# Altium schematic symbol library UserIUD.SchLib: 7 symbols
Pins are listed as number, name and electrical type; pins without a type are passive.

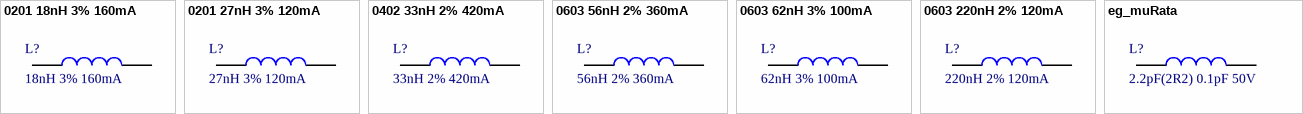
[diagram p0: symbols 0201 18nH 3% 160mA to eg_muRata]

## 0201 18nH 3% 160mA
designator L?, comment 18nH 3% 160mA
村田 0603贴片电感; ManufacturerPartNumber: LQP03TG18NH02D; Manufacturer: muRata(村田); ComponentLink1Description: NULL; Supplier: LC; SuppliersPartNumber: C86098; Package: 0201; SuppliersLink1URL: http://www.szlcsc.com/product/details_87274.html
footprint 0201_L
pins: 1, 2

## 0201 27nH 3% 120mA
designator L?, comment 27nH 3% 120mA
村田 0603贴片电感; ManufacturerPartNumber: LQP03TG27NH02D; Manufacturer: muRata(村田); ComponentLink1Description: NULL; Supplier: LC; SuppliersPartNumber: C86105; Package: 0201; SuppliersLink1URL: http://www.szlcsc.com/product/details_87281.html
footprint 0201_L
pins: 1, 2

## 0402 33nH 2% 420mA
designator L?, comment 33nH 2% 420mA
村田 0603贴片电感; ManufacturerPartNumber: LQW18AN33NG00D; Manufacturer: muRata(村田); ComponentLink1Description: NULL; Supplier: LC; SuppliersPartNumber: C98073; Package: 0603; SuppliersLink1URL: http://www.szlcsc.com/product/details_99282.html
footprint 0603_L
pins: 1, 2

## 0603 56nH 2% 360mA
designator L?, comment 56nH 2% 360mA
村田 0603贴片电感; ManufacturerPartNumber: LQW18AN56NG00D; Manufacturer: muRata(村田); ComponentLink1Description: NULL; Supplier: LC; SuppliersPartNumber: C98079; Package: 0603; SuppliersLink1URL: http://www.szlcsc.com/product/details_99288.html
footprint 0603_L
pins: 1, 2

## 0603 62nH 3% 100mA
designator L?, comment 62nH 3% 100mA
Murata Electronics North America 0603贴片电感; ManufacturerPartNumber: LQW18AN56NG00D; ComponentLink1Description: NULL; Supplier: digikey; SuppliersPartNumber: 490-9597-6-ND; Package: 0603; SuppliersLink1URL: https://www.digikey.com.cn/search/zh/LQP03TN62NH02D/490-9597-1-ND?recordId=5802403; Manufacturer: Murata Electronics North America
footprint 0603_L
pins: 1, 2

## 0603 220nH 2% 120mA
designator L?, comment 220nH 2% 120mA
村田 0603贴片电感; ManufacturerPartNumber: LQW18ANR22G00D; Manufacturer: muRata(村田); ComponentLink1Description: NULL; Supplier: LC; SuppliersPartNumber: C86139; Package: 0603; SuppliersLink1URL: http://www.szlcsc.com/product/details_87315.html
footprint 0603_L
pins: 1, 2

## eg_muRata
designator L?, comment 2.2pF(2R2) 0.1pF 50V
村田 0603贴片电感; ManufacturerPartNumber: GRM1555C1H2R2BA01D; Manufacturer: muRata(村田); ComponentLink1Description: NULL; Supplier: LC; SuppliersPartNumber: C88927; Package: 0603; SuppliersLink1URL: http://www.szlcsc.com/product/details_90107.html
footprint 0603_L
pins: 1, 2